# Altium footprint library PCB_CrystalOsc.PcbLib: 4 footprints
Each footprint in its own frame and in the unit in brackets; x right, y up, seen from the top. Pads: shape width x height; smd on the part's side, far side on the other; paste and mask are expansions set on the pad; w line width, h text height; cw(c..) or ccw(c..) is an arc to the next point about the centre after c.
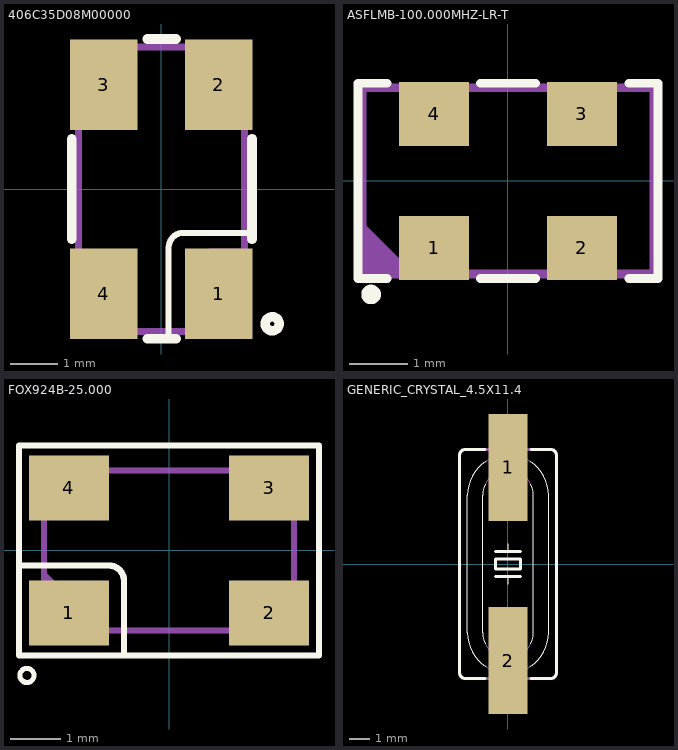
[diagram p0: the footprints below, top view; thin cyan lines are the x and y axes]

## 406C35D08M00000 [mil]
pads (4):
  rect 56x75 smd: 1(47.62,-86.81) 2(47.62,86.81) 3(-47.62,86.81) 4(-47.62,-86.81)
Top Overlay:
  circle w7.87: c92,-111.69 r5.83
  lines w5: 6.13,-122.05 6.13,-48.13 cw(c17.94,-48.13) 17.94,-36.32 70.87,-36.32
  lines w8: -74.46,-41.53 -74.46,41.81 ; -11.62,-124.21 12.19,-124.21 ; -11.62,124.65 12.19,124.65 ; 75.18,-41.53 75.18,41.81
TopAsm:
  region: 68.9,-118.11 68.9,-49.21 39.37,-49.21 39.37,-118.11
  lines w5.91: -68.9,-118.11 68.9,-118.11 68.9,118.11 -68.9,118.11 -68.9,-118.11
  text ".Designator" at -59.06,-11.81 h39.37
3D body: height 47.24, standoff 0, extent -68.9,-118.11 68.9,118.11

## ASFLMB-100.000MHZ-LR-T [mm] "OSC MEMS 100.000MHZ CMOS SMD"
pads (4):
  rect 1.2x1.1 smd: 1(-1.27,-1.15) 2(1.27,-1.15) 3(1.27,1.15) 4(-1.27,1.15)
Top Overlay:
  circle w0.178: c-2.35,-1.95 r0.079
  lines w0.15: -2.075,-1.675 -2.575,-1.675 -2.575,-1.3 -2.575,1.675 -2.075,1.675 ; -0.475,-1.675 0.475,-1.675 ; -0.475,1.675 0.475,1.675 ; 2.075,-1.675 2.575,-1.675 2.575,1.3 2.575,1.675 2.075,1.675
TopAsm:
  region: -2.5,-1.6 -2.5,-0.7 -1.6,-1.6
  lines w0.15: -2.5,-1.6 -2.5,1.6 2.5,1.6 2.5,-1.6 -2.5,-1.6
  text ".Designator" at -1.825,-0.675 h1
3D body "ASFLMB.STEP": height 0.85, standoff 0, extent -2.5,-1.6 2.5,1.6

## FOX924B-25.000 [mm] "TCXO, 25 MHz, 2.5 ppm, SMD, 5mm x 3.2mm, HCMOS, 3.3 V, FOX924 Series"
pads (4):
  rect 1.6x1.3 smd: 1(-2.003,-1.25) 2(2.003,-1.25) 3(2.003,1.25) 4(-2.003,1.25)
Top Overlay:
  circle w0.102: c-2.841,-2.5 r0.141
  lines w0.127: -3,-0.3 -1.2,-0.3 cw(c-1.2,-0.6) -0.9,-0.6 -0.9,-2.1 ; -3,-2.1 -3,2.1 3,2.1 3,-2.1 -3,-2.1
TopAsm:
  region: -2.5,-1.6 -2.5,-0.4 -1.3,-1.6
  lines w0.127: -2.5,-1.6 2.5,-1.6 2.5,1.6 -2.5,1.6 -2.5,-1.6
  text ".Designator" at -2,-0.3 h1
3D body: height 1.51, standoff 0, extent -2.198,-1.199 -1.8,-0.8
3D body: height 1.5, standoff 0, extent -2.5,-1.6 2.5,1.6

## GENERIC_CRYSTAL_4.5X11.4 [mil]
pads (2):
  rect 76x210 smd: 1(0,190) 2(0,-190)
Top Overlay:
  lines w2: -45,-201.14 cw(c0,-135) -80,-135 -80,135 cw(c0,135) -45,201.15 ; -45,-156.8 cw(c0.01,-135) -50,-135 -50,135 cw(c0.01,135) -45,156.8 ; 0,-40 0,-25 ; 0,25 0,40 ; 45,-201.15 ccw(c0,-135) 80,-135 80,135 ccw(c-0.01,135) 45,201.15 ; 45,-156.8 ccw(c-0.01,-135) 50,-135 50,135 ccw(c-0.01,135) 45,156.8
  lines w6: -45,-225 -85,-225 cw(c-85,-215) -95,-215 -95,215 cw(c-85,215) -85,225 -45,225 ; -25,-25 0,-25 25,-25 ; -25,25 0,25 25,25 ; 45,-225 85,-225 ccw(c85,-215) 95,-215 95,215 ccw(c85,215) 85,225 45,225 ; -25,-10 -25,10 25,10 25,-10 -25,-10
Mechanical 16:
  lines w2: -45,-201.15 ccw(c0,-135) 45,-201.15 ; -45,-156.8 ccw(c0,-135) 45,-156.8 ; -45,156.8 cw(c0,135) 45,156.8 ; -45,201.15 cw(c0,135) 45,201.15
  lines w6: -45,-225 45,-225 ; -45,225 -15,225 ; -15,-225 -15,-255 15,-255 15,-225 ; 45,225 15,225 ; -15,225 15,225 ; -15,225 -15,255 15,255 15,225
3D body "User Library-Crystal HC49_US-SM.step": height 169.29, standoff 0, extent -95.08,-251.96 95.08,251.98